# Altium footprint library Passive.PcbLib: 235 footprints (part 10 of 15)
Each footprint in its own frame and in the unit in brackets; x right, y up, seen from the top. Pads: shape width x height; smd on the part's side, far side on the other; paste and mask are expansions set on the pad; w line width, h text height; cw(c..) or ccw(c..) is an arc to the next point about the centre after c.
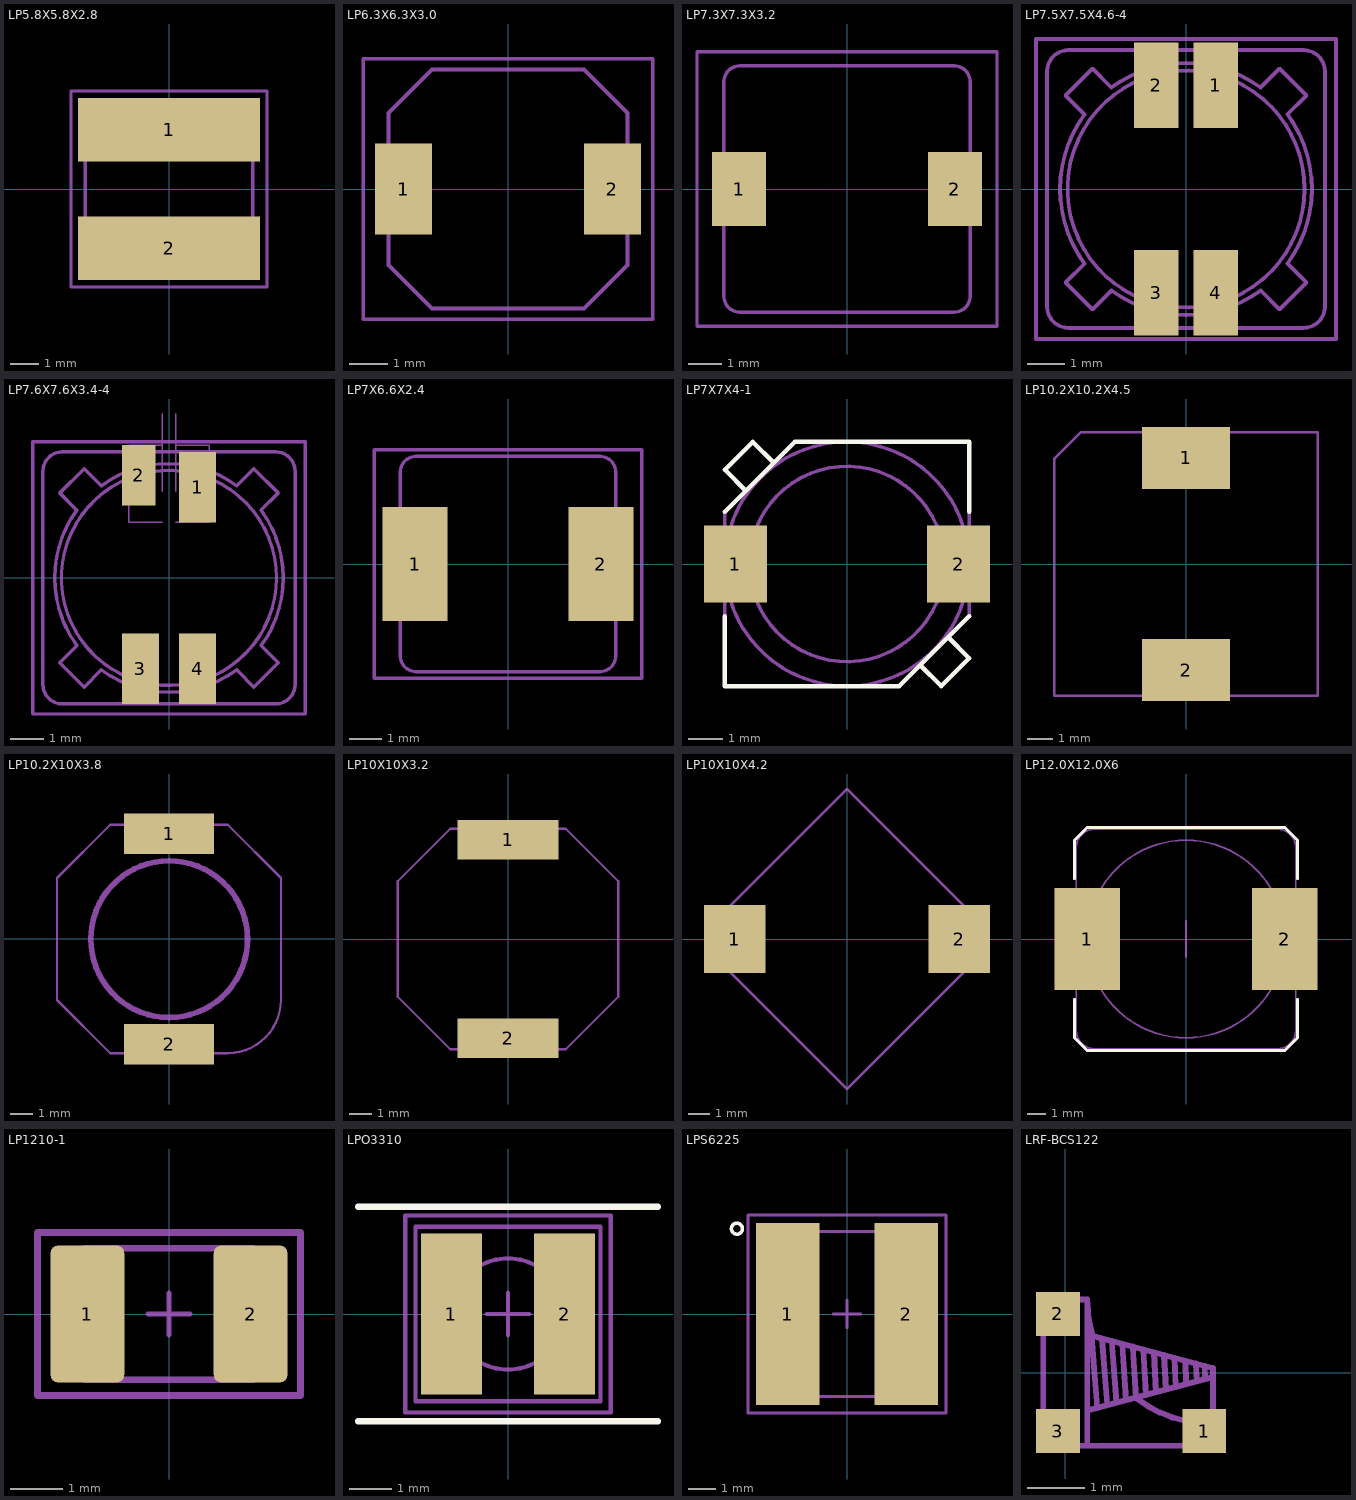
[diagram p9: the footprints below, top view; thin cyan lines are the x and y axes]

## LP5.8X5.8X2.8 [mm] "SMD Power inductor 5.8x5.8x2.8mm shielded"
height 2.8
pads (2):
  rect 6.3x2.2 smd: 1(0,2.05) 2(0,-2.05)
Mechanical 13:
  lines w0.127: -2.9,-2.54 ccw(c-2.54,-2.54) -2.54,-2.9 2.54,-2.9 ccw(c2.54,-2.54) 2.9,-2.54 2.9,2.54 ccw(c2.54,2.54) 2.54,2.9 -2.54,2.9 ccw(c-2.54,2.54) -2.9,2.54 -2.9,-2.54
Mechanical 15:
  lines w0.102: -3.4,-3.4 3.4,-3.4 3.4,3.4 -3.4,3.4 -3.4,-3.4
3D body: height 2.8, standoff 0.2, extent -2.9,-2.9 2.9,2.9
3D body: height 2.81, standoff 1, extent -2.2,-2.2 2.2,2.2
3D body: height 0.2, standoff 0, extent -2.9,1 2.9,2.9
3D body: height 0.2, standoff 0, extent -2.9,-2.9 2.9,-1

## LP6.3X6.3X3.0 [mm] "SMD Power inductor 6.3x6.3x3.0mm shielded"
height 3
pads (2):
  rect 1.5x2.4 smd: 1(-2.75,0) 2(2.75,0)
Mechanical 13:
  lines w0.102: -3.15,-2 -3.15,2 -2,3.15 2,3.15 3.15,2 3.15,-2 2,-3.15 -2,-3.15 -3.15,-2
Mechanical 15:
  lines w0.102: -3.81,-3.429 -3.81,3.429 3.81,3.429 3.81,-3.429 -3.81,-3.429
3D body: height 2.8, standoff 0, extent -3.15,-3.15 3.15,3.15
3D body: height 3, standoff 2.8, extent -2.159,-2.159 2.224,2.232

## LP7.3X7.3X3.2 [mm] "SMD Power inductor 7.3x7.3x3.2mm shielded"
height 3.2
pads (2):
  rect 1.6x2.2 smd: 1(-3.2,0) 2(3.2,0)
Mechanical 13:
  lines w0.102: -3.65,-3.175 ccw(c-3.175,-3.175) -3.175,-3.65 3.175,-3.65 ccw(c3.175,-3.175) 3.65,-3.175 3.65,3.175 ccw(c3.175,3.175) 3.175,3.65 -3.175,3.65 ccw(c-3.175,3.175) -3.65,3.175 -3.65,-3.175
Mechanical 15:
  lines w0.102: -4.445,-4.064 -4.445,4.064 4.445,4.064 4.445,-4.064 -4.445,-4.064
3D body: height 3.22, standoff 3.21, extent -1.569,1.016 -0.971,1.615
3D body: height 3.2, standoff 0, extent -3.65,-3.65 3.65,3.65
3D body: height 3.21, standoff 3.2, extent -2.49,-2.54 2.49,2.45

## LP7.5X7.5X4.6-4 [mm] "SMD Power inductor 7.3x7.3x4.6mm shielded 4pin dual induct"
height 4.6
pads (4):
  rect 1.2x2.3 smd: 1(0.8,2.8) 2(-0.8,2.8) 3(-0.8,-2.8) 4(0.8,-2.8)
Mechanical 13:
  circle w0.1: c0,0 r3.2
  lines w0.1: -2.75,-2.025 -3.25,-2.525 -2.525,-3.25 -2.013,-2.738 ; -2.739,2.014 ccw(c0,0) -2.738,-2.016 ; -2.738,2.013 -3.25,2.525 -2.525,3.25 -2.025,2.75 ; -2.016,2.738 cw(c0,0) 2.014,2.739 ; -2.014,-2.739 ccw(c0,0) 2.016,-2.738 ; 2.013,2.738 2.525,3.25 3.25,2.525 2.75,2.025 ; 2.025,-2.75 2.525,-3.25 3.25,-2.525 2.738,-2.013 ; 2.738,2.016 cw(c0,0) 2.739,-2.014
  lines w0.102: -3.75,-3.2 -3.75,3.175 cw(c-3.175,3.175) -3.175,3.75 3.175,3.75 cw(c3.175,3.175) 3.75,3.175 3.75,-3.175 cw(c3.175,-3.175) 3.175,-3.75 -3.175,-3.75 cw(c-3.175,-3.175) -3.75,-3.175
Mechanical 15:
  lines w0.102: -4.05,-4.05 -4.05,4.05 4.05,4.05 4.05,-4.05 -4.05,-4.05
3D body: height 4.5, standoff 0.7, extent -3.75,0 0,3.75
3D body: height 4.5, standoff 0.7, extent -3.75,-3.75 0,0
3D body: height 4.5, standoff 0.7, extent 0,-3.75 3.75,0
3D body: height 4.5, standoff 0.7, extent 0,0 3.75,3.75
3D body: height 4.6, standoff 3.6, extent -3.2,-3.2 3.175,3.187
3D body: height 4.3, standoff 0.1, extent -3.4,-3.4 3.4,3.4
3D body: height 0.2, standoff 0, extent -1.15,1.9 -0.45,3.5
3D body: height 0.2, standoff 0, extent 0.45,1.9 1.15,3.5
3D body: height 0.2, standoff 0, extent 0.45,-3.5 1.15,-1.9
3D body: height 0.2, standoff 0, extent -1.15,-3.5 -0.45,-1.9
3D body: height 4.61, standoff 4.6, extent 1.5,1.5 2.098,2.099

## LP7.6X7.6X3.4-4 [mm] "SMD Power inductor 7.3x7.3x3.4mm shielded 4pin dual induct"
height 3.4
pads (4):
  rect 1.1x2.1 smd: 1(0.85,2.7) 3(-0.85,-2.7) 4(0.85,-2.7)
  rect 1x1.8 smd: 2(-0.9,3.05)
Mechanical 13:
  circle w0.1: c0,0 r3.2
  lines w0.1: -2.75,-2.025 -3.25,-2.525 -2.525,-3.25 -2.013,-2.738 ; -2.739,2.014 ccw(c0,0) -2.738,-2.016 ; -2.738,2.013 -3.25,2.525 -2.525,3.25 -2.025,2.75 ; -2.016,2.738 cw(c0,0) 2.014,2.739 ; -2.014,-2.739 ccw(c0,0) 2.016,-2.738 ; 2.013,2.738 2.525,3.25 3.25,2.525 2.75,2.025 ; 2.025,-2.75 2.525,-3.25 3.25,-2.525 2.738,-2.013 ; 2.738,2.016 cw(c0,0) 2.739,-2.014
  lines w0.102: -3.75,-3.2 -3.75,3.175 cw(c-3.175,3.175) -3.175,3.75 3.175,3.75 cw(c3.175,3.175) 3.75,3.175 3.75,-3.175 cw(c3.175,-3.175) 3.175,-3.75 -3.175,-3.75 cw(c-3.175,-3.175) -3.75,-3.175
Mechanical 15:
  lines w0.05: -0.2,1.65 -1.2,1.65 -1.2,3.95 -0.2,3.95 ; -0.2,2.575 -0.2,4.875 ; 0.2,1.65 1.2,1.65 1.2,3.95 0.2,3.95 ; 0.2,2.575 0.2,4.875
  lines w0.102: -4.05,-4.05 -4.05,4.05 4.05,4.05 4.05,-4.05 -4.05,-4.05
3D body: height 4.5, standoff 0.7, extent -3.75,0 0,3.75
3D body: height 4.5, standoff 0.7, extent -3.75,-3.75 0,0
3D body: height 4.5, standoff 0.7, extent 0,-3.75 3.75,0
3D body: height 4.5, standoff 0.7, extent 0,0 3.75,3.75
3D body: height 4.6, standoff 3.6, extent -3.2,-3.2 3.175,3.187
3D body: height 4.3, standoff 0.1, extent -3.4,-3.4 3.4,3.4
3D body: height 0.2, standoff 0, extent -1.15,1.9 -0.45,3.5
3D body: height 0.2, standoff 0, extent 0.45,1.9 1.15,3.5
3D body: height 0.2, standoff 0, extent 0.45,-3.5 1.15,-1.9
3D body: height 0.2, standoff 0, extent -1.15,-3.5 -0.45,-1.9
3D body: height 4.61, standoff 4.6, extent 1.5,1.5 2.098,2.099

## LP7X6.6X2.4 [mm] "SMD Power inductor 7x6.5x2.4mm shielded"
height 2.4
pads (2):
  rect 2x3.5 smd: 1(-2.85,0) 2(2.85,0)
Mechanical 13:
  lines w0.1: -3.3,-1.6 -3.5,-1.6 -3.5,1.6 -3.3,1.6 ; 3.3,-1.6 3.5,-1.6 ; 3.3,1.6 3.3,1.6 3.5,1.6 3.5,-1.6 ; 3.5,-1.6 3.5,-1.6
  lines w0.102: -3.3,-2.825 ccw(c-2.825,-2.825) -2.825,-3.3 2.825,-3.3 ccw(c2.825,-2.825) 3.3,-2.825 3.3,2.825 ccw(c2.825,2.825) 2.825,3.3 -2.825,3.3 ccw(c-2.825,2.825) -3.3,2.825 -3.3,-2.825
Mechanical 15:
  lines w0.102: -4.1,-3.5 -4.1,3.5 4.1,3.5 4.1,-3.5 -4.1,-3.5
3D body: height 2.4, standoff 0.2, extent -3.3,-3.3 3.3,3.3
3D body: height 1.9, standoff 0, extent 2.3,-1.6 3.5,1.6
3D body: height 1.9, standoff 0, extent -3.5,-1.6 -2.3,1.6

## LP7X7X4-1 [mm] "Power inductor 7x7x4mm"
pads (2):
  rect 1.8x2.2 smd: 1(-3.2,0) 2(3.2,0)
Top Overlay:
  lines w0.127: -3.5,-1.5 -3.5,-3.5 1.5,-3.5 3.5,-1.5 ; -3.5,1.5 -1.5,3.5 3.5,3.5 3.5,1.5 ; -2.1,2.9 -2.7,3.5 ; 2.1,-2.9 2.7,-3.5 3.5,-2.7 2.9,-2.1 ; -2.9,2.1 -2.9,2.1 ; -2.9,2.1 -3.5,2.7 -2.7,3.5 ; -2.7,3.5 -2.7,3.5
Mechanical 13:
  circle w0.102: c0,0 r2.8
  circle w0.102: c0,0 r3.501
  lines w0.102: -2.9,2.1 -3.5,2.7 ; 2.9,-2.1 3.5,-2.7 ; -3.5,2.7 -3.5,2.7 ; -3.5,2.7 -2.7,3.5 -2.1,2.9 ; -2.1,2.9 -2.1,2.9 ; 2.1,-2.9 2.1,-2.9 ; 2.1,-2.9 2.7,-3.5 3.5,-2.7 ; 3.5,-2.7 3.5,-2.7 ; -3.5,-3.5 1.5,-3.5 3.5,-1.5 3.5,3.5 -1.5,3.5 -3.5,1.5 -3.5,-3.5
3D body: height 4, standoff 0, extent -3.5,-3.5 3.5,3.5
3D body: height 4.02, standoff 3.02, extent -2.695,-2.679 2.695,2.7
3D body: height 4.01, standoff 3.01, extent -2.944,-2.975 3.044,3.001
3D body: height 2, standoff 0, extent 3.5,-1 3.7,1
3D body: height 2, standoff 0, extent -3.7,-1 -3.5,1

## LP10.2X10.2X4.5 [mm] "Power inductor 10.2x10.2x4.5mm"
height 4.5
pads (2):
  rect 3.4x2.4 smd: 1(0,4.1) 2(0,-4.1)
Mechanical 13:
  lines w0.102: -5.1,-5.1 -5.1,4.064 -4.064,5.1 5.1,5.1 5.1,-5.1 -5.1,-5.1
3D body: height 4.52, standoff 4.5, extent -2.012,-2.023 -1.016,-1.025
3D body: height 4.51, standoff 4.5, extent -2.997,-2.972 2.979,3.016
3D body: height 4.5, standoff 0, extent -5.1,-5.1 5.1,5.1

## LP10.2X10X3.8 [mm] "Power inductor 10.2x10x3.8mm"
height 3.8
pads (2):
  rect 4x1.8 smd: 1(0,4.7) 2(0,-4.7)
Mechanical 13:
  circle w0.254: c0.006,-0.006 r3.5
  lines w0.102: -5,-2.72 -5,2.72 -2.62,5.1 2.62,5.1 5,2.72 5,-2.62 5,-2.72 cw(c2.62,-2.72) 2.62,-5.1 -2.62,-5.1 -5,-2.72
3D body: height 3.8, standoff 0, extent -5,-5.1 5,5.1
3D body: height 3.81, standoff 3.8, extent -3.49,-3.505 3.506,3.493
3D body: height 3.81, standoff 3.8, extent -1,3.5 1,5.1
3D body: height 3.81, standoff 3.8, extent -1.006,-5.106 0.994,-3.506

## LP10X10X3.2 [mm] "Power inductor 10x10x3.2mm"
height 3.2
pads (2):
  rect 4.6x1.8 smd: 1(0,4.5) 2(0,-4.5)
Mechanical 13:
  lines w0.102: -5,-2.62 -2.62,-5 2.62,-5 5,-2.62 5,2.62 2.62,5 -2.62,5 -5,2.62 -5,-2.62
3D body: height 3.8, standoff 0, extent -5,-5 5,5
3D body: height 3.81, standoff 3.8, extent -2.997,-2.972 2.979,3.016
3D body: height 3.82, standoff 3.8, extent -0.483,1.702 0.513,2.7

## LP10X10X4.2 [mm] "Power inductor 10x10x4.2mm"
height 4.2
pads (2):
  rect 2.9x3.2 smd: 1(-5.3,0) 2(5.3,0)
Mechanical 13:
  lines w0.102: -6.081,-0.99 0,-7.071 6.081,-0.99 6.081,0.99 0,7.071 -6.081,0.99 -6.081,-0.99
3D body: height 3, standoff 0, extent 4.9,-1 6.3,1
3D body: height 3, standoff 0, extent -6.3,-1 -4.9,1
3D body: height 4.2, standoff 0.1, extent -4.4,-4.4 4.4,4.4
3D body: height 4.1, standoff 0.1, extent -6.081,-7.071 6.081,7.071

## LP12.0X12.0X6 [mm] "Power inductor 12.0x12.0x6.0mm Wuerth WE-PD L"
height 6
pads (2):
  rect 3.6x5.6 smd paste-0.2: 1(-5.4,0) 2(5.4,0)
Top Overlay:
  lines w0.15: -6.1,-3.3 -6.1,-5.4 -5.4,-6.1 5.4,-6.1 6.1,-5.4 6.1,-3.3 ; -6.1,3.3 -6.1,5.4 -5.4,6.1 5.4,6.1 6.1,5.4 6.1,3.3
Mechanical 13:
  circle w0.1: c0,0 r5.4
  lines w0.1: -6,-5 ccw(c-5,-5) -5,-6 5,-6 ccw(c5,-5) 6,-5 6,5 ccw(c5,5) 5,6 -5,6 ccw(c-5,5) -6,5 -6,-5
Mechanical 15:
  lines w0.102: 0,-1 0,1
3D body: height 6, standoff 0.6, extent -6,-6 6,6
3D body: height 6.01, standoff 0.2, extent -5.4,-5.4 5.4,5.4
3D body: height 6.02, standoff 6, extent -5,-5 5,5

## LP1210-1 [mm] "Chip capacitor 1210 (3225)"
height 2
pads (2):
  rrect20% 1.4x2.6 smd: 1(-1.55,0) 2(1.55,0)
Mechanical 13:
  lines w0.127: -1.6,-1.25 1.6,-1.25 1.6,1.25 -1.6,1.25 -1.6,-1.25
Mechanical 15:
  lines w0.102: -0.4,0 0.4,0 ; 0,-0.4 0,0.4
  lines w0.127: -2.5,-1.55 -2.5,1.55 2.5,1.55 2.5,-1.55 -2.5,-1.55
3D body: height 2.2, standoff 0.1, extent -1.6,-1.25 1.6,1.25
3D body: height 1.2, standoff 0, extent -1.778,-0.94 -1.6,0.94
3D body: height 1.2, standoff 0, extent 1.6,-0.94 1.778,0.94

## LPO3310 [mm] "SMD inductor 4.1x3.3x1mm shielded"
height 1
pads (2):
  rect 1.42x3.76 smd: 1(-1.32,0) 2(1.32,0)
Top Overlay:
  lines w0.15: -3.5,-2.5 3.5,-2.5 ; -3.5,2.5 3.5,2.5
Mechanical 13:
  circle w0.1: c0,0 r1.3
  lines w0.102: -2.159,-2.032 2.159,-2.032 2.159,2.032 -2.159,2.032 -2.159,-2.032
Mechanical 15:
  lines w0.102: -0.5,0 0.5,0 ; 0,-0.5 0,0.5 ; -2.4,-2.3 2.4,-2.3 2.4,2.3 -2.4,2.3 -2.4,-2.3
3D body: height 1, standoff 0, extent -2.159,-2.032 2.159,2.032

## LPS6225 [mm] "Power inductor 6x6x2.4mm"
height 2.4
pads (2):
  rect 2.3x6.6 smd: 1(-2.15,0) 2(2.15,0)
Top Overlay:
  circle w0.127: c-4,3.1 r0.2
Mechanical 13:
  circle w0.127: c-2.6,0 r0.224
  lines w0.102: -3,-2 -2,-3 2,-3 3,-2 3,2 2,3 -2,3 -3,2 -3,-2
Mechanical 15:
  lines w0.102: -0.5,0 0.5,0 ; 0,-0.5 0,0.5 ; -3.6,-3.6 3.6,-3.6 3.6,3.6 -3.6,3.6 -3.6,-3.6
3D body: height 2.4, standoff 2.3, extent -2,-2 1.9,2
3D body: height 2.3, standoff 0, extent -3,-3 3,3

## LRF-BCS122 [mil] "Conical inductor SMD 3.05x2.54x2.8mm"
height 110.24
pads (3):
  rect 30x30 smd: 1(95,-40) 2(-5,40) 3(-5,-40)
Mechanical 13:
  lines w4: 15,-26 101,-3 ; 15,26 101,3 101,-3 ; 18,25 21.81,-24.14 ; 18.71,25.15 cw(c100,50) 15,50 ; 25.13,23.29 28.63,-22.35 ; 31.79,21.51 35.01,-20.65 ; 38.92,19.6 41.57,-18.89 ; 46.14,17.67 48.32,-17.09 ; 48.85,-17.88 ccw(c100,50) 100,-35 105,-35 105,-50 15,-50 ; 53.29,15.76 55.11,-15.27 ; 60.71,13.77 62.02,-13.42 ; 67.5,11.96 68.77,-11.3 ; 74.69,10.04 75.47,-9.83 ; 82.05,8.07 82.5,-7.95 ; 89.42,6.1 89.8,-5.99 ; 95.27,4.53 95.56,-4.46 ; 101,-35 101,-3 ; 15,-50 -15,-50 -15,50 15,50 ; 15,-50 15,50
3D body: height 30, standoff 0, extent -15,-50 105,50
3D body: height 90, standoff 30, extent -15,30 15,50
3D body: height 90, standoff 30, extent -15,-50 15,-30
3D body: height 110, standoff 90, extent -15,-50 15,50
3D body: height 80, standoff 30, extent 0,-29 101,29